# EAGLE library part CON-SUBD_F09HP (library 000_ICS)
SUB-D
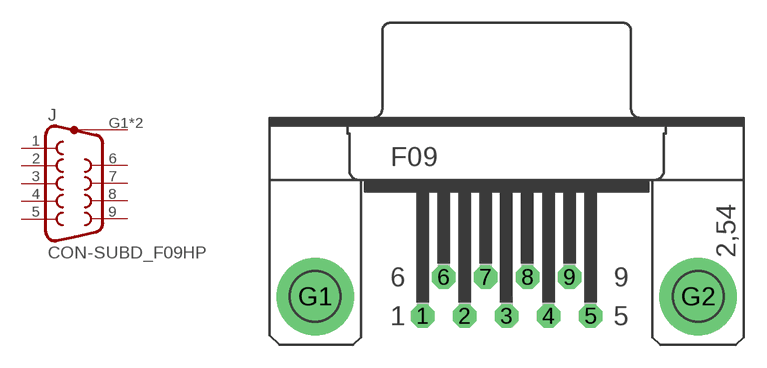
[diagram p0: symbol with the pads of CON-SUBD_F09HP; footprint CON-SUBD_F09HP]

Designator prefix J

## CON-SUBD_F09HP (1PC: 2.32; DIGIKEY: 609-1484-ND; HEIGHT: 13.75)  [CON-SUBD_F09HP]
1  1  pas
2  2  pas
3  3  pas
4  4  pas
5  5  pas
6  6  pas
7  7  pas
8  8  pas
9  9  pas
G1  G1  pas
G2  G1  pas

## Footprint CON-SUBD_F09HP (pad centres in mm)
SUB-D
drill 1.016 octagon: 1 -5.486,-1.27; 2 -2.743,-1.27; 3 0,-1.27; 4 2.743,-1.27; 5 5.486,-1.27; 6 -4.115,1.27; 7 -1.372,1.27; 8 1.372,1.27; 9 4.115,1.27
drill 3.302 pad 5.08: G1 -12.522,0; G2 12.522,0